# Altium schematic symbol library Schlib_STMicroelectronics.SchLib: 43 symbols
Pins are listed as number, name and electrical type; pins without a type are passive.

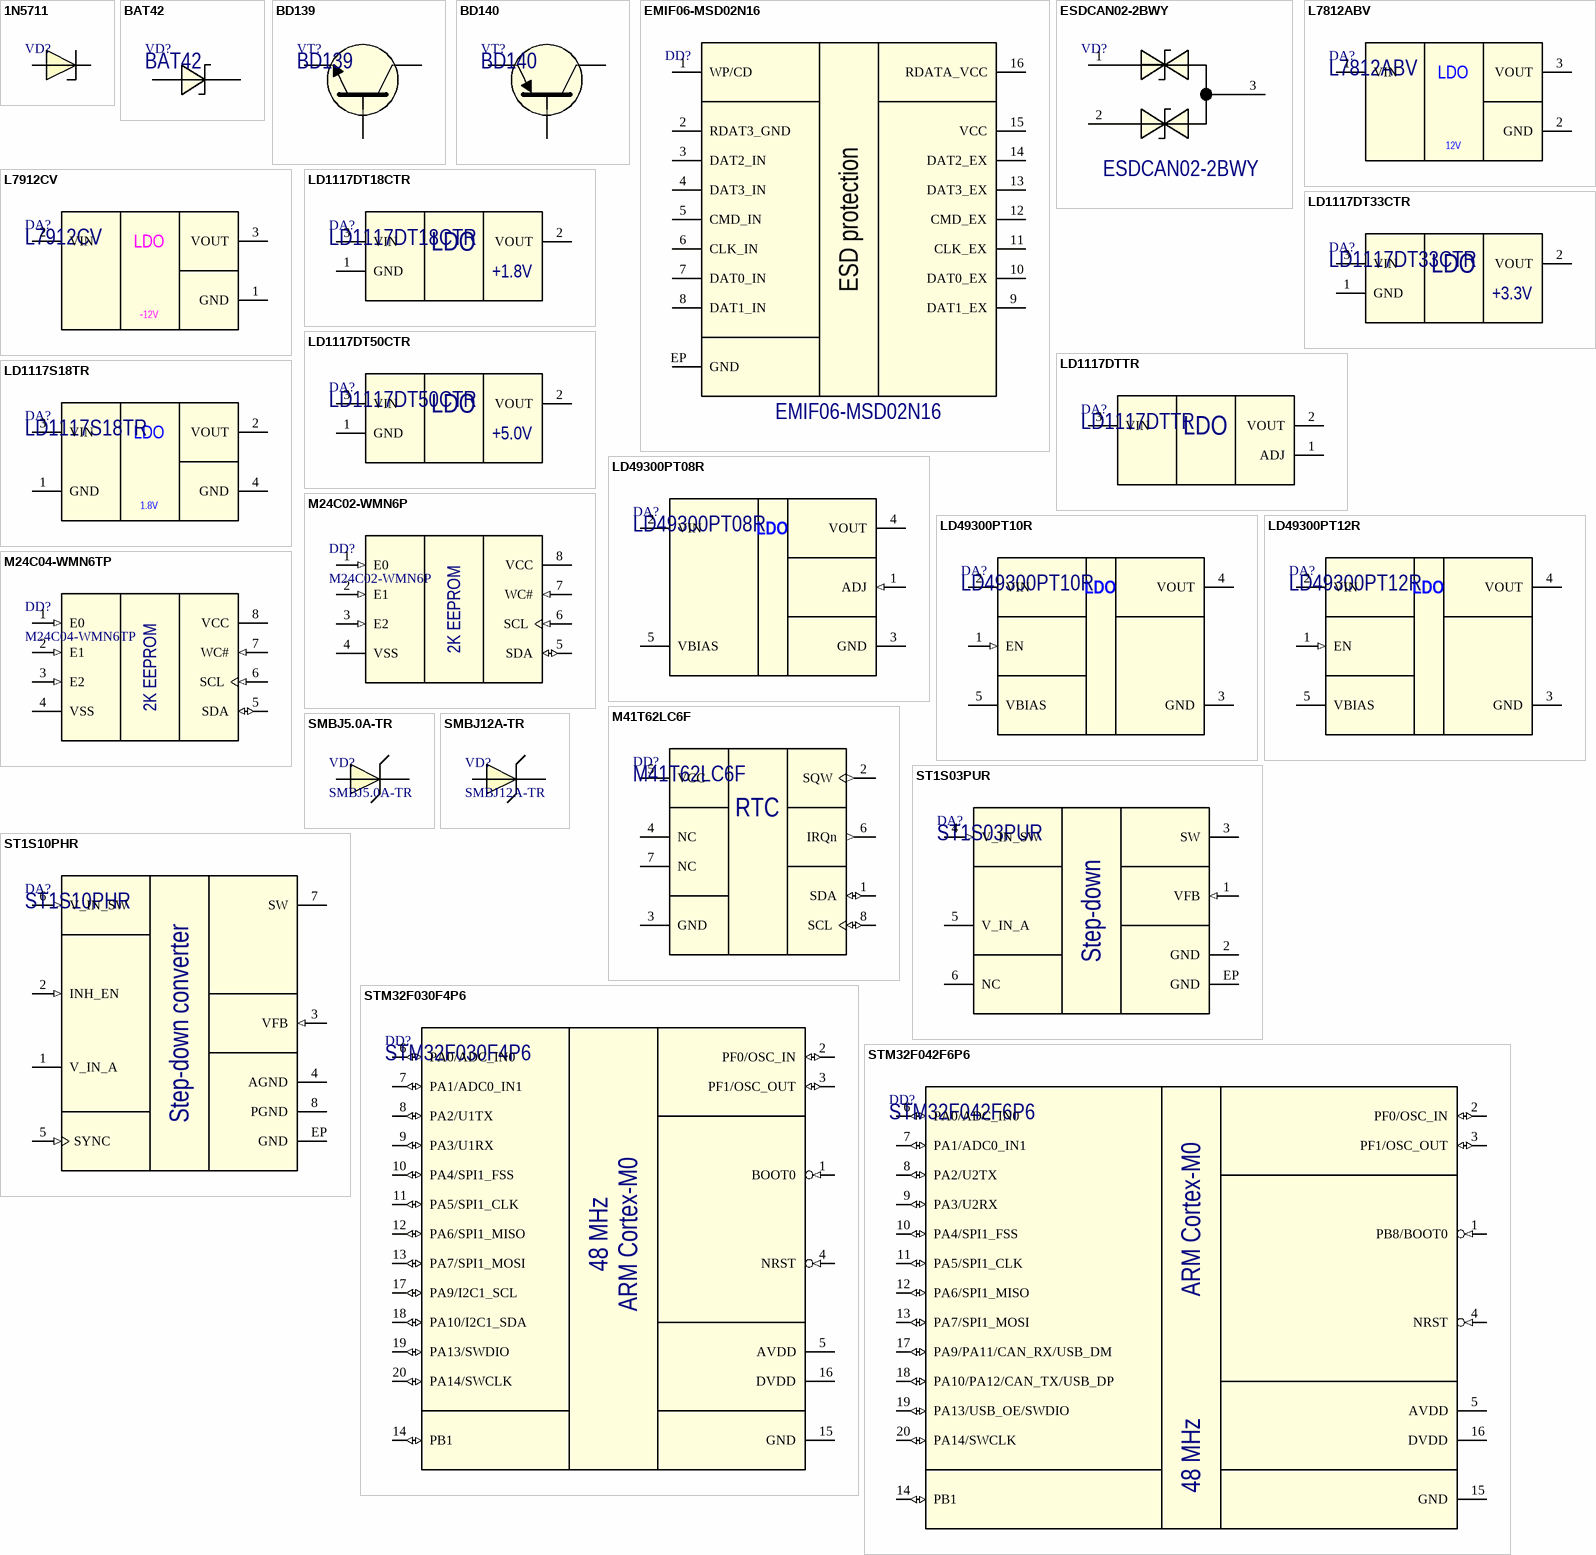
[diagram p0: symbols 1N5711 to STM32F042F6P6]

## 1N5711
designator VD?  (value not drawn)
Schottky diode 10mA, 70V; Manufacturer: STMicroelectronics; Package: DO-35; Part Number: 1N5711
footprint DO-35 GLASS BLUE
footprint DO-35 GLASS BLUE (VERTICAL)
pins: 1 C, 2 A

## BAT42
designator VD?
Small signal schottky diode 30V @ 200mA; Manufacturer: STMicroelectronics; Package: DO-35; Part Number: BAT42
footprint DO-35 GLASS BLUE
footprint DO-35 GLASS BLUE (VERTICAL)
pins: 1 CATHODE, 2 ANODE

## BD139
designator VT?
General Purpose n-p-n Transistors; Manufacturer: STMicroelectronics; Package: TO-126; Part Number: BD139
footprint TO-126 (HORIZONTAL, HOLE MOUNTING)
footprint TO-126 (HORIZONTAL)
footprint TO-126 (VERTICAL)
pins: 1 B, 2 C, 3 E

## BD140
designator VT?
General Purpose p-n-p Transistors; Manufacturer: STMicroelectronics; Package: TO-126; Part Number: BD140
footprint TO-126 (HORIZONTAL, HOLE MOUNTING)
footprint TO-126 (HORIZONTAL)
footprint TO-126 (VERTICAL)
pins: 1 B, 2 C, 3 E

## EMIF06-MSD02N16
designator DD?
EMI filter and ESD protection; Manufacturer: STMicroelectronics; Package: QFN-16L (3.5x1.2mm); Part Number: EMIF06-MSD02N16
footprint QFN-16L (3.5x1.2mm) (QFN, 16-Leads, Body 1,20x3,50mm, Pitch 0,40mm, Thermal Pad 0,33x2,80mm, IPC High Density)
pins: 1 WP/CD, 2 RDAT3_GND, 3 DAT2_IN, 4 DAT3_IN, 5 CMD_IN, 6 CLK_IN, 7 DAT0_IN, 8 DAT1_IN, 9 DAT1_EX, 10 DAT0_EX, 11 CLK_EX, 12 CMD_EX, 13 DAT3_EX, 14 DAT2_EX, 15 VCC, 16 RDATA_VCC, EP GND
text: ESD protection

## ESDCAN02-2BWY
designator VD?
Small signal Schottky diodes; Manufacturer: STMicroelectronics; Package: SC70-3; Part Number: ESDCAN02-2BWY
footprint SC70-3
pins: 1, 2, 3

## L7812ABV
designator DA?
12V, 1,5 A voltage regulator (Fixed version); Manufacturer: STMicroelectronics; Package: TO-220; Part Number: L7812ABV
footprint TO-220AB-3
footprint TO-220AB-3 (HORIZONTAL)
pins: 1 VIN (power), 2 GND, 3 VOUT (power)
text: LDO; 12V

## L7912CV
designator DA?
-12V, 1,5 A voltage regulator (Fixed version); Manufacturer: STMicroelectronics; Package: TO-220; Part Number: L7912CV
footprint TO-220AB-3
footprint TO-220AB-3 (HORIZONTAL)
pins: 1 GND, 2 VIN (power), 3 VOUT (power)
text: LDO; -12V

## LD1117DT18CTR
designator DA?
Low drop positive voltage regulator; Manufacturer: STMicroelectronics; Part Number: LD1117DT18CTR; Package: TO-252-3
footprint TO-252-3 (D-PAK, 3-Pads, Body 6.15x6.66mm (max), IPC Medium Density)
pins: 1 GND (power), 2 VOUT (power), 3 VIN (power)
text: LDO; +1.8V

## LD1117DT33CTR
designator DA?
Low drop positive voltage regulator; Manufacturer: STMicroelectronics; Part Number: LD1117DT33CTR; Package: TO-252-3
footprint TO-252-3 (D-PAK, 3-Pads, Body 6.15x6.66mm (max), IPC Medium Density)
pins: 1 GND (power), 2 VOUT (power), 3 VIN (power)
text: LDO; +3.3V

## LD1117DT50CTR
designator DA?
Low drop positive voltage regulator; Manufacturer: STMicroelectronics; Part Number: LD1117DT50CTR; Package: TO-252-3
footprint TO-252-3 (D-PAK, 3-Pads, Body 6.15x6.66mm (max), IPC Medium Density)
pins: 1 GND (power), 2 VOUT (power), 3 VIN (power)
text: LDO; +5.0V

## LD1117DTTR
designator DA?
Low drop positive voltage regulator; Manufacturer: STMicroelectronics; Part Number: LD1117DTTR; Package: TO-252-3
footprint TO-252-3 (D-PAK, 3-Pads, Body 6.15x6.66mm (max), IPC Medium Density)
pins: 1 ADJ (power), 2 VOUT (power), 3 VIN (power)
text: LDO

## LD1117S18TR
designator DA?
1.8V, 0.8 A voltage regulator; Manufacturer: STMicroelectronics; Package: SOT-223; Part Number: LD1117S18TR
footprint SOT223-4 (SOT223, 4-Leads, Body 6.50x7.00mm (avg), Pitch 2.30mm, IPC Medium Density)
pins: 1 GND, 2 VOUT (power), 3 VIN (power), 4 GND
text: LDO; 1.8V

## LD49300PT08R
designator DA?
3 A very low-dropout voltage regulator (Adjustable version); Manufacturer: STMicroelectronics; Package: TO-252-3; Part Number: LD49300PT08R
footprint TO-252-5 (D-PAK, 5-Pads, Body 6.15x6.66mm (max), IPC Medium Density)
pins: 1 ADJ (in), 2 VIN (power), 3 GND, 4 VOUT (power), 5 VBIAS
text: LDO

## LD49300PT10R
designator DA?
3 A very low-dropout voltage regulator (Fixed version); Manufacturer: STMicroelectronics; Package: TO-252-3; Part Number: LD49300PT10R
footprint TO-252-5 (D-PAK, 5-Pads, Body 6.15x6.66mm (max), IPC Medium Density)
pins: 1 EN (in), 2 VIN (power), 3 GND, 4 VOUT (power), 5 VBIAS
text: LDO

## LD49300PT12R
designator DA?
3 A very low-dropout voltage regulator (Fixed version); Manufacturer: STMicroelectronics; Package: TO-252-3; Part Number: LD49300PT12R
footprint TO-252-5 (D-PAK, 5-Pads, Body 6.15x6.66mm (max), IPC Medium Density)
pins: 1 EN (in), 2 VIN (power), 3 GND, 4 VOUT (power), 5 VBIAS
text: LDO

## M24C02-WMN6P
designator DD?
2K I2C Serial EEPROM; Manufacturer: STMicroelectronics; Package: SOIC-8; Part Number: M24C02-WMN6P
footprint SOIC-8 (SOIC-8 package)
pins: 1 E0 (in), 2 E1 (in), 3 E2 (in), 4 VSS (power), 5 SDA (io), 6 SCL (in), 7 WC# (in), 8 VCC (power)
text: 2K EEPROM

## M24C04-WMN6TP
designator DD?
4K I2C Serial EEPROM; Manufacturer: STMicroelectronics; Package: SOIC-8; Part Number: M24C04-WMN6TP
footprint SOIC-8 (SOIC-8 package)
pins: 1 E0 (in), 2 E1 (in), 3 E2 (in), 4 VSS (power), 5 SDA (io), 6 SCL (in), 7 WC# (in), 8 VCC (power)
text: 2K EEPROM

## M41T62LC6F
designator DD?
Real Time Clock; Manufacturer: STMicroelectronics; Package: LCC8; Part Number: M41T62LC6F
pins: 1 SDA (io), 2 SQW (out), 3 GND (power), 4 NC, 5 VCC (power), 6 IRQn (out), 7 NC, 8 SCL (io)
text: RTC

## SMBJ5.0A-TR
designator VD?
5V Transient Voltage Suppressors; Manufacturer: STMicroelectronics; Part Number: SMBJ5.0A-TR; Package: DO214AA (SMB)
footprint SMB (DO-214AA)
pins: 1 C, 2 A

## SMBJ12A-TR
designator VD?
12V Transient Voltage Suppressors; Manufacturer: STMicroelectronics; Part Number: SMBJ12A-TR; Package: DO214AA (SMB)
footprint SMB (DO-214AA)
pins: 1 C, 2 A

## ST1S03PUR
designator DA?
1.5 A, 1.5 MHz, monolithic synchronous step-down regulator IC; Manufacturer: STMicroelectronics; Part Number: ST1S03PUR; Package: DFN6D
footprint DFN6D (QFN 3mm x 3mm)
pins: 1 VFB (in), 2 GND (power), 3 SW (power), 4 V_IN_SW (in), 5 V_IN_A (power), 6 NC (hiz), EP GND (power)
text: Step-down

## ST1S10PHR
designator DA?
3 A, 900 kHz, monolithic synchronous step-down regulator IC; Manufacturer: STMicroelectronics; Part Number: ST1S10PHR; Package: SO-8EP
footprint SOIC-8EP (SOIC-8 package with exponsed pad)
pins: 1 V_IN_A (power), 2 INH_EN (in), 3 VFB (in), 4 AGND (power), 5 SYNC (in), 6 V_IN_SW (in), 7 SW (power), 8 PGND (power), EP GND (power)
text: Step-down converter

## STM32F030F4P6
designator DD?
ARM Cortex-M0 MCU 48MHz with 16KB flash; Manufacturer: STMicroelectronics; Package: TSSOP-20; Part Number: STM32F030F4P6
footprint TSSOP-20 (TSOP, 20-Leads, Body 6.50x4.40mm, Pitch 0.65mm, IPC Medium Density)
pins: 1 BOOT0 (in), 2 PF0/OSC_IN (io), 3 PF1/OSC_OUT (io), 4 NRST (in), 5 AVDD (power), 6 PA0/ADC_IN0 (io), 7 PA1/ADC0_IN1 (io), 8 PA2/U1TX (io), 9 PA3/U1RX (io), 10 PA4/SPI1_FSS (io), 11 PA5/SPI1_CLK (io), 12 PA6/SPI1_MISO (io), 13 PA7/SPI1_MOSI (io), 14 PB1 (io), 15 GND (power), 16 DVDD (power), 17 PA9/I2C1_SCL (io), 18 PA10/I2C1_SDA (io), 19 PA13/SWDIO (io), 20 PA14/SWCLK (io)
text: 48 MHz; ARM Cortex-M0

## STM32F042F6P6
designator DD?
ARM Cortex-M0 MCU 48MHz with 32KB flash; Manufacturer: STMicroelectronics; Package: TSSOP-20; Part Number: STM32F042F6P6
footprint TSSOP-20 (TSOP, 20-Leads, Body 6.50x4.40mm, Pitch 0.65mm, IPC Medium Density)
pins: 1 PB8/BOOT0 (in), 2 PF0/OSC_IN (io), 3 PF1/OSC_OUT (io), 4 NRST (in), 5 AVDD (power), 6 PA0/ADC_IN0 (io), 7 PA1/ADC0_IN1 (io), 8 PA2/U2TX (io), 9 PA3/U2RX (io), 10 PA4/SPI1_FSS (io), 11 PA5/SPI1_CLK (io), 12 PA6/SPI1_MISO (io), 13 PA7/SPI1_MOSI (io), 14 PB1 (io), 15 GND (power), 16 DVDD (power), 17 PA9/PA11/CAN_RX/USB_DM (io), 18 PA10/PA12/CAN_TX/USB_DP (io), 19 PA13/USB_OE/SWDIO (io), 20 PA14/SWCLK (io)
text: ARM Cortex-M0; 48 MHz

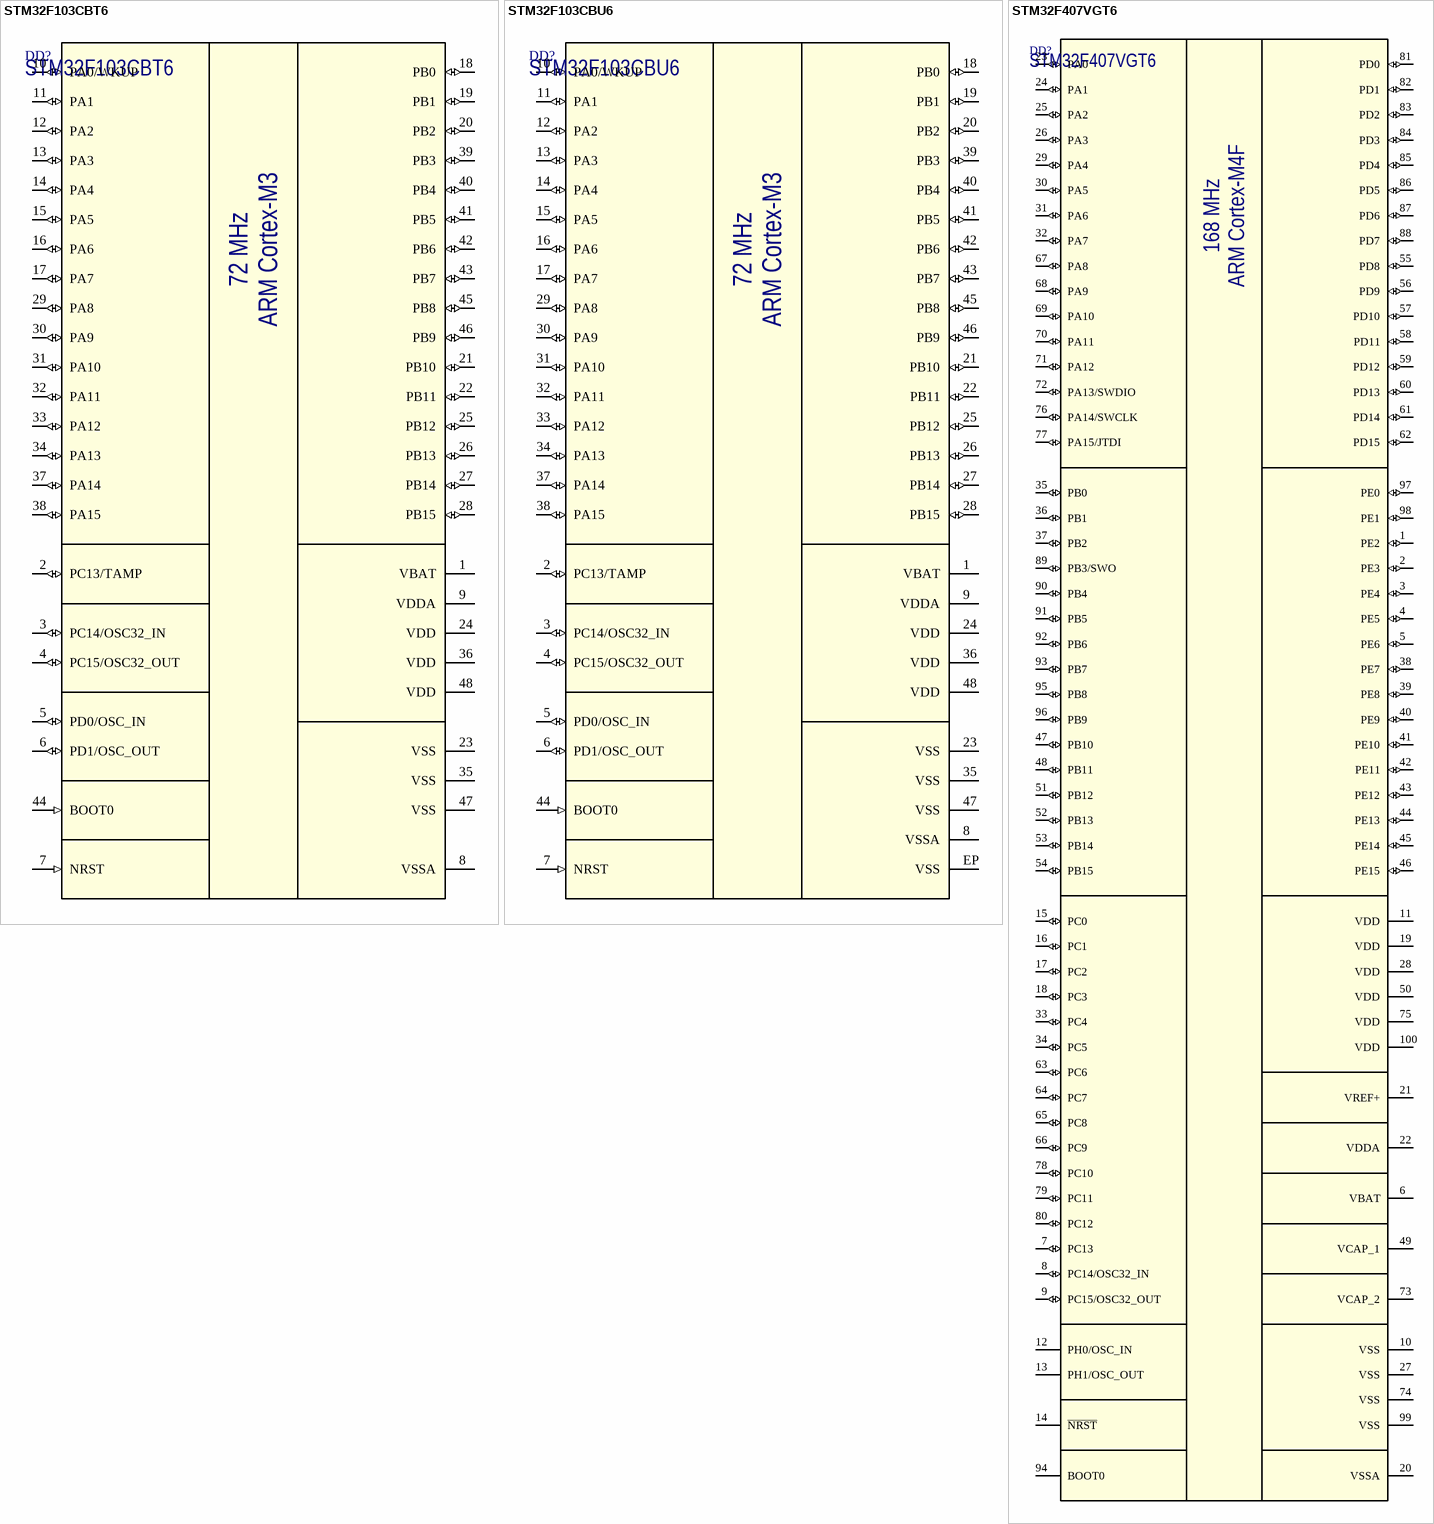
[diagram p1: symbols STM32F103CBT6 to STM32F407VGT6]

## STM32F103CBT6
designator DD?
ARM Cortex-M3 MCU 72MHz with 128KB flash; Manufacturer: STMicroelectronics; Package: LQFP-48; Part Number: STM32F103CBT6
footprint LQFP-48 (TSQFP, 48-Leads, Body 7,00x7,00mm, Pitch 0,50mm, IPC Medium Density)
pins: 1 VBAT (power), 2 PC13/TAMP (io), 3 PC14/OSC32_IN (io), 4 PC15/OSC32_OUT (io), 5 PD0/OSC_IN (io), 6 PD1/OSC_OUT (io), 7 NRST (in), 8 VSSA (power), 9 VDDA (power), 10 PA0/WKUP (io), 11 PA1 (io), 12 PA2 (io), 13 PA3 (io), 14 PA4 (io), 15 PA5 (io), 16 PA6 (io), 17 PA7 (io), 18 PB0 (io), 19 PB1 (io), 20 PB2 (io), 21 PB10 (io), 22 PB11 (io), 23 VSS (power), 24 VDD (power), 25 PB12 (io), 26 PB13 (io), 27 PB14 (io), 28 PB15 (io), 29 PA8 (io), 30 PA9 (io), 31 PA10 (io), 32 PA11 (io), 33 PA12 (io), 34 PA13 (io), 35 VSS (power), 36 VDD (power), 37 PA14 (io), 38 PA15 (io), 39 PB3 (io), 40 PB4 (io), 41 PB5 (io), 42 PB6 (io), 43 PB7 (io), 44 BOOT0 (in), 45 PB8 (io), 46 PB9 (io), 47 VSS (power), 48 VDD (power)
text: 72 MHz; ARM Cortex-M3

## STM32F103CBU6
designator DD?
ARM Cortex-M3 MCU 72MHz with 128KB flash; Manufacturer: STMicroelectronics; Package: UFQFPN-48; Part Number: STM32F103CBU6
footprint QFN48 (QFN, 48-Leads, Body 6.95x6.95mm, Pitch 0.50mm, Thermal Pad 5.60x5.60mm, IPC Medium Density)
pins: 1 VBAT (power), 2 PC13/TAMP (io), 3 PC14/OSC32_IN (io), 4 PC15/OSC32_OUT (io), 5 PD0/OSC_IN (io), 6 PD1/OSC_OUT (io), 7 NRST (in), 8 VSSA (power), 9 VDDA (power), 10 PA0/WKUP (io), 11 PA1 (io), 12 PA2 (io), 13 PA3 (io), 14 PA4 (io), 15 PA5 (io), 16 PA6 (io), 17 PA7 (io), 18 PB0 (io), 19 PB1 (io), 20 PB2 (io), 21 PB10 (io), 22 PB11 (io), 23 VSS (power), 24 VDD (power), 25 PB12 (io), 26 PB13 (io), 27 PB14 (io), 28 PB15 (io), 29 PA8 (io), 30 PA9 (io), 31 PA10 (io), 32 PA11 (io), 33 PA12 (io), 34 PA13 (io), 35 VSS (power), 36 VDD (power), 37 PA14 (io), 38 PA15 (io), 39 PB3 (io), 40 PB4 (io), 41 PB5 (io), 42 PB6 (io), 43 PB7 (io), 44 BOOT0 (in), 45 PB8 (io), 46 PB9 (io), 47 VSS (power), 48 VDD (power), EP VSS (power)
text: 72 MHz; ARM Cortex-M3

## STM32F407VGT6
designator DD?
ARM Cortex-M4F MCU 168MHz with 1MB flash; Manufacturer: STMicroelectronics; Package: LQFP-100; Part Number: STM32F407VGT6
footprint LQFP-100 (TSQFP, 100-Leads, Body 14,00x14,00mm, Pitch 0,50mm, IPC Medium Density)
pins: 1 PE2 (io), 2 PE3 (io), 3 PE4 (io), 4 PE5 (io), 5 PE6 (io), 6 VBAT, 7 PC13 (io), 8 PC14/OSC32_IN (io), 9 PC15/OSC32_OUT (io), 10 VSS, 11 VDD, 12 PH0/OSC_IN, 13 PH1/OSC_OUT, 14 ~{NRST}, 15 PC0 (io), 16 PC1 (io), 17 PC2 (io), 18 PC3 (io), 19 VDD, 20 VSSA, 21 VREF+, 22 VDDA, 23 PA0 (io), 24 PA1 (io), 25 PA2 (io), 26 PA3 (io), 27 VSS, 28 VDD, 29 PA4 (io), 30 PA5 (io), 31 PA6 (io), 32 PA7 (io), 33 PC4 (io), 34 PC5 (io), 35 PB0 (io), 36 PB1 (io), 37 PB2 (io), 38 PE7 (io), 39 PE8 (io), 40 PE9 (io), 41 PE10 (io), 42 PE11 (io), 43 PE12 (io), 44 PE13 (io), 45 PE14 (io), 46 PE15 (io), 47 PB10 (io), 48 PB11 (io), 49 VCAP_1, 50 VDD, 51 PB12 (io), 52 PB13 (io), 53 PB14 (io), 54 PB15 (io), 55 PD8 (io), 56 PD9 (io), 57 PD10 (io), 58 PD11 (io), 59 PD12 (io), 60 PD13 (io), 61 PD14 (io), 62 PD15 (io), 63 PC6 (io), 64 PC7 (io), 65 PC8 (io), 66 PC9 (io), 67 PA8 (io), 68 PA9 (io), 69 PA10 (io), 70 PA11 (io), 71 PA12 (io), 72 PA13/SWDIO (io), 73 VCAP_2, 74 VSS, 75 VDD, 76 PA14/SWCLK (io), 77 PA15/JTDI (io), 78 PC10 (io), 79 PC11 (io), 80 PC12 (io), 81 PD0 (io), 82 PD1 (io), 83 PD2 (io), 84 PD3 (io), 85 PD4 (io), 86 PD5 (io), 87 PD6 (io), 88 PD7 (io), 89 PB3/SWO (io), 90 PB4 (io), 91 PB5 (io), 92 PB6 (io), 93 PB7 (io), 94 BOOT0, 95 PB8 (io), 96 PB9 (io), 97 PE0 (io), 98 PE1 (io), 99 VSS, 100 VDD
text: 168 MHz; ARM Cortex-M4F

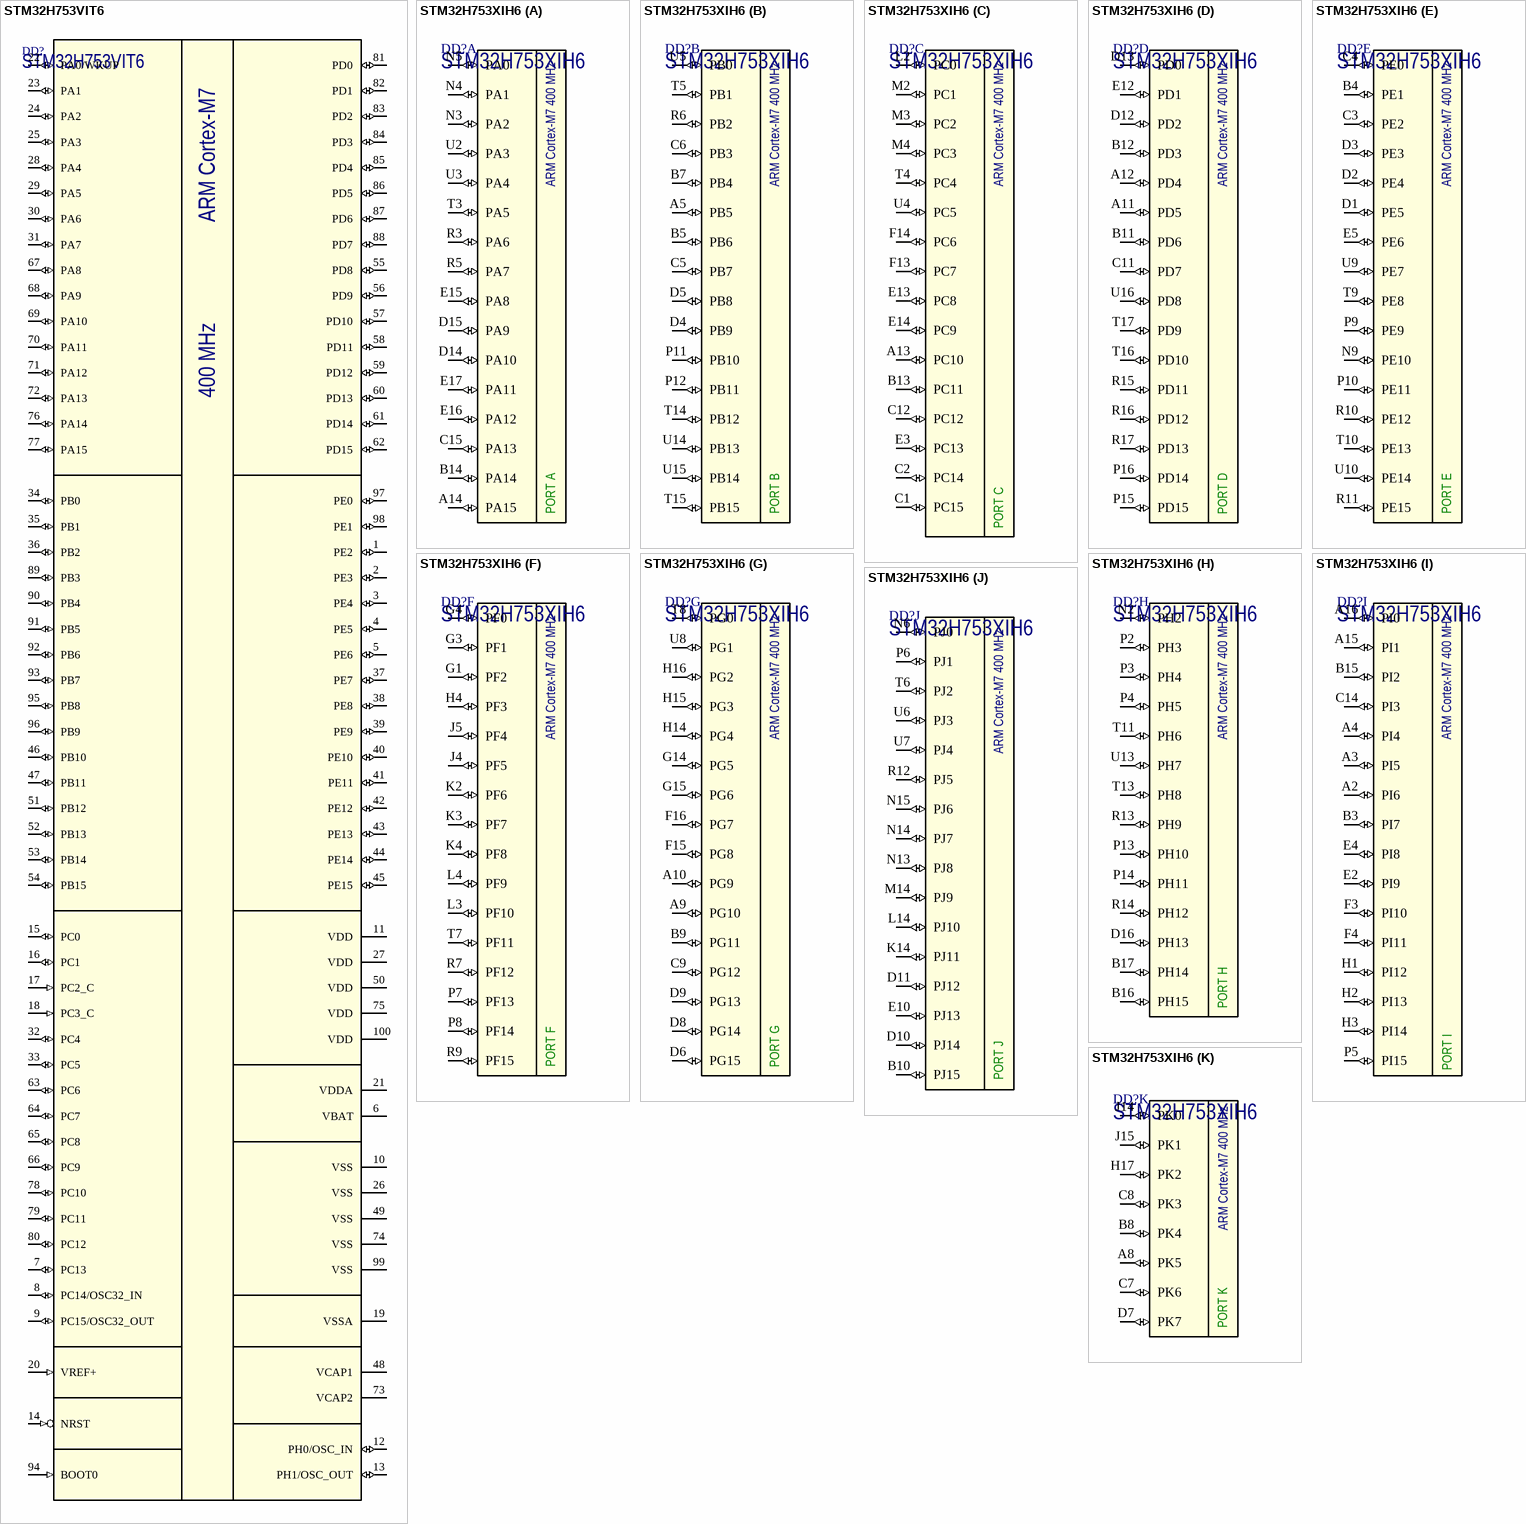
[diagram p2: symbols STM32H753VIT6 to STM32H753XIH6]

## STM32H753VIT6
designator DD?
ARM Cortex-M7 MCU 400MHz with 2MB flash; Manufacturer: STMicroelectronics; Package: LQFP-100; Part Number: STM32H753VIT6
footprint LQFP-100 (TSQFP, 100-Leads, Body 14,00x14,00mm, Pitch 0,50mm, IPC Medium Density)
pins: 1 PE2 (io), 2 PE3 (io), 3 PE4 (io), 4 PE5 (io), 5 PE6 (io), 6 VBAT (power), 7 PC13 (io), 8 PC14/OSC32_IN (io), 9 PC15/OSC32_OUT (io), 10 VSS (power), 11 VDD (power), 12 PH0/OSC_IN (io), 13 PH1/OSC_OUT (io), 14 NRST (in), 15 PC0 (io), 16 PC1 (io), 17 PC2_C (in), 18 PC3_C (in), 19 VSSA (power), 20 VREF+ (in), 21 VDDA (power), 22 PA0/WKUP (io), 23 PA1 (io), 24 PA2 (io), 25 PA3 (io), 26 VSS (power), 27 VDD (power), 28 PA4 (io), 29 PA5 (io), 30 PA6 (io), 31 PA7 (io), 32 PC4 (io), 33 PC5 (io), 34 PB0 (io), 35 PB1 (io), 36 PB2 (io), 37 PE7 (io), 38 PE8 (io), 39 PE9 (io), 40 PE10 (io), 41 PE11 (io), 42 PE12 (io), 43 PE13 (io), 44 PE14 (io), 45 PE15 (io), 46 PB10 (io), 47 PB11 (io), 48 VCAP1, 49 VSS (power), 50 VDD (power), 51 PB12 (io), 52 PB13 (io), 53 PB14 (io), 54 PB15 (io), 55 PD8 (io), 56 PD9 (io), 57 PD10 (io), 58 PD11 (io), 59 PD12 (io), 60 PD13 (io), 61 PD14 (io), 62 PD15 (io), 63 PC6 (io), 64 PC7 (io), 65 PC8 (io), 66 PC9 (io), 67 PA8 (io), 68 PA9 (io), 69 PA10 (io), 70 PA11 (io), 71 PA12 (io), 72 PA13 (io), 73 VCAP2, 74 VSS (power), 75 VDD (power), 76 PA14 (io), 77 PA15 (io), 78 PC10 (io), 79 PC11 (io), 80 PC12 (io), 81 PD0 (io), 82 PD1 (io), 83 PD2 (io), 84 PD3 (io), 85 PD4 (io), 86 PD5 (io), 87 PD6 (io), 88 PD7 (io), 89 PB3 (io), 90 PB4 (io), 91 PB5 (io), 92 PB6 (io), 93 PB7 (io), 94 BOOT0 (in), 95 PB8 (io), 96 PB9 (io), 97 PE0 (io), 98 PE1 (io), 99 VSS (power), 100 VDD (power)
text: ARM Cortex-M7; 400 MHz

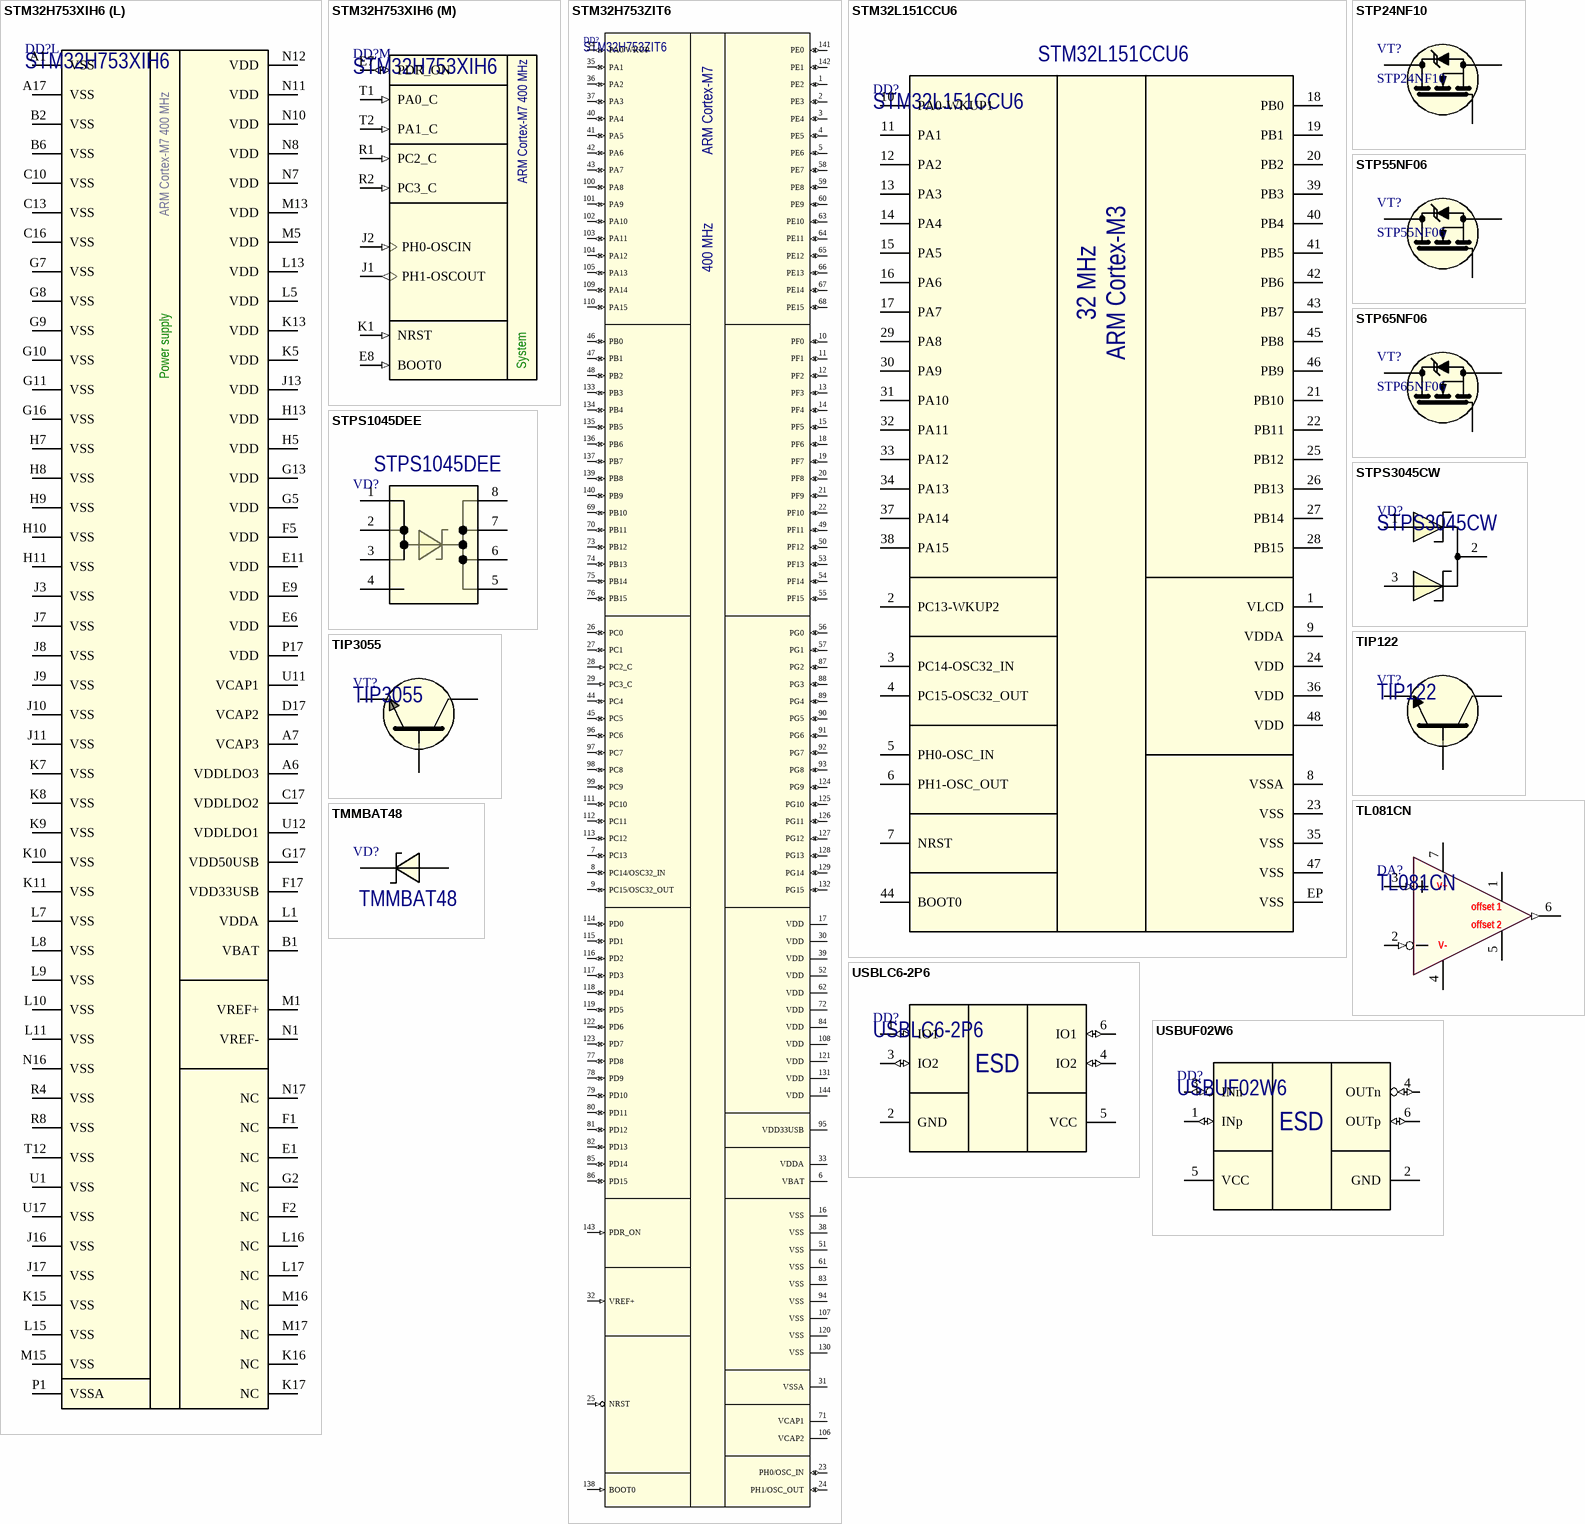
[diagram p3: symbols STM32H753XIH6 to USBUF02W6]

## STM32H753XIH6
designator DD?
ARM Cortex-M7 MCU 400MHz with 2MB flash, 1MB RAM; Manufacturer: STMicroelectronics; Package: TFBGA240+25; Part Number: STM32H753XIH6
footprint TFBGA240+25 (BGA, 265-Leads, Body 14,00x14,00mmx1,10mm, Pitch 0,80mm)
part A pins: A14 PA15 (io), B14 PA14 (io), C15 PA13 (io), D14 PA10 (io), D15 PA9 (io), E15 PA8 (io), E16 PA12 (io), E17 PA11 (io), N3 PA2 (io), N4 PA1 (io), N5 PA0 (io), R3 PA6 (io), R5 PA7 (io), T3 PA5 (io), U2 PA3 (io), U3 PA4 (io)
part B pins: A5 PB5 (io), B5 PB6 (io), B7 PB4 (io), C5 PB7 (io), C6 PB3 (io), D4 PB9 (io), D5 PB8 (io), P11 PB10 (io), P12 PB11 (io), R6 PB2 (io), T5 PB1 (io), T14 PB12 (io), T15 PB15 (io), U5 PB0 (io), U14 PB13 (io), U15 PB14 (io)
part C pins: A13 PC10 (io), B13 PC11 (io), C1 PC15 (io), C2 PC14 (io), C12 PC12 (io), E3 PC13 (io), E13 PC8 (io), E14 PC9 (io), F13 PC7 (io), F14 PC6 (io), L2 PC0 (io), M2 PC1 (io), M3 PC2 (io), M4 PC3 (io), T4 PC4 (io), U4 PC5 (io)
part D pins: A11 PD5 (io), A12 PD4 (io), B11 PD6 (io), B12 PD3 (io), C11 PD7 (io), D12 PD2 (io), D13 PD0 (io), E12 PD1 (io), P15 PD15 (io), P16 PD14 (io), R15 PD11 (io), R16 PD12 (io), R17 PD13 (io), T16 PD10 (io), T17 PD9 (io), U16 PD8 (io)
part E pins: B4 PE1 (io), C3 PE2 (io), C4 PE0 (io), D1 PE5 (io), D2 PE4 (io), D3 PE3 (io), E5 PE6 (io), N9 PE10 (io), P9 PE9 (io), P10 PE11 (io), R10 PE12 (io), R11 PE15 (io), T9 PE8 (io), T10 PE13 (io), U9 PE7 (io), U10 PE14 (io)
part F pins: G1 PF2 (io), G3 PF1 (io), G4 PF0 (io), H4 PF3 (io), J4 PF5 (io), J5 PF4 (io), K2 PF6 (io), K3 PF7 (io), K4 PF8 (io), L3 PF10 (io), L4 PF9 (io), P7 PF13 (io), P8 PF14 (io), R7 PF12 (io), R9 PF15 (io), T7 PF11 (io)
part G pins: A9 PG10 (io), A10 PG9 (io), B9 PG11 (io), C9 PG12 (io), D6 PG15 (io), D8 PG14 (io), D9 PG13 (io), F15 PG8 (io), F16 PG7 (io), G14 PG5 (io), G15 PG6 (io), H14 PG4 (io), H15 PG3 (io), H16 PG2 (io), T8 PG0 (io), U8 PG1 (io)
part H pins: B16 PH15 (io), B17 PH14 (io), D16 PH13 (io), N2 PH2 (io), P2 PH3 (io), P3 PH4 (io), P4 PH5 (io), P13 PH10 (io), P14 PH11 (io), R13 PH9 (io), R14 PH12 (io), T11 PH6 (io), T13 PH8 (io), U13 PH7 (io)
part I pins: A2 PI6 (io), A3 PI5 (io), A4 PI4 (io), A15 PI1 (io), A16 PI0 (io), B3 PI7 (io), B15 PI2 (io), C14 PI3 (io), E2 PI9 (io), E4 PI8 (io), F3 PI10 (io), F4 PI11 (io), H1 PI12 (io), H2 PI13 (io), H3 PI14 (io), P5 PI15 (io)
part J pins: B10 PJ15 (io), D10 PJ14 (io), D11 PJ12 (io), E10 PJ13 (io), K14 PJ11 (io), L14 PJ10 (io), M14 PJ9 (io), N6 PJ0 (io), N13 PJ8 (io), N14 PJ7 (io), N15 PJ6 (io), P6 PJ1 (io), R12 PJ5 (io), T6 PJ2 (io), U6 PJ3 (io), U7 PJ4 (io)
part K pins: A8 PK5 (io), B8 PK4 (io), C7 PK6 (io), C8 PK3 (io), D7 PK7 (io), H17 PK2 (io), J14 PK0 (io), J15 PK1 (io)
part L pins: A1 VSS (power), A6 VDDLDO3 (power), A7 VCAP3 (power), A17 VSS (power), B1 VBAT (power), B2 VSS (power), B6 VSS (power), C10 VSS (power), C13 VSS (power), C16 VSS (power), C17 VDDLDO2 (power), D17 VCAP2 (power), E1 NC, E6 VDD (power), E9 VDD (power), E11 VDD (power), F1 NC, F2 NC, F5 VDD (power), F17 VDD33USB (power), G2 NC, G5 VDD (power), G7 VSS (power), G8 VSS (power), G9 VSS (power), G10 VSS (power), G11 VSS (power), G13 VDD (power), G16 VSS (power), G17 VDD50USB (power), H5 VDD (power), H7 VSS (power), H8 VSS (power), H9 VSS (power), H10 VSS (power), H11 VSS (power), H13 VDD (power), J3 VSS (power), J7 VSS (power), J8 VSS (power), J9 VSS (power), J10 VSS (power), J11 VSS (power), J13 VDD (power), J16 VSS (power), J17 VSS (power), K5 VDD (power), K7 VSS (power), K8 VSS (power), K9 VSS (power), K10 VSS (power), K11 VSS (power), K13 VDD (power), K15 VSS (power), K16 NC, K17 NC, L1 VDDA (power), L5 VDD (power), L7 VSS (power), L8 VSS (power), L9 VSS (power), L10 VSS (power), L11 VSS (power), L13 VDD (power), L15 VSS (power), L16 NC, L17 NC, M1 VREF+ (power), M5 VDD (power), M13 VDD (power), M15 VSS (power), M16 NC, M17 NC, N1 VREF- (power), N7 VDD (power), N8 VDD (power), N10 VDD (power), N11 VDD (power), N12 VDD (power), N16 VSS (power), N17 NC, P1 VSSA (power), P17 VDD (power), R4 VSS (power), R8 VSS (power), T12 VSS (power), U1 VSS (power), U11 VCAP1 (power), U12 VDDLDO1 (power), U17 VSS (power)
part M pins: E7 PDR_ON (io), E8 BOOT0 (in), J1 PH1-OSCOUT (out), J2 PH0-OSCIN (in), K1 NRST (in), R1 PC2_C (in), R2 PC3_C (in), T1 PA0_C (in), T2 PA1_C (in)
part A text: ARM Cortex-M7 400 MHz; PORT A
part B text: ARM Cortex-M7 400 MHz; PORT B
part C text: ARM Cortex-M7 400 MHz; PORT C
part D text: ARM Cortex-M7 400 MHz; PORT D
part E text: ARM Cortex-M7 400 MHz; PORT E
part F text: ARM Cortex-M7 400 MHz; PORT F
part G text: ARM Cortex-M7 400 MHz; PORT G
part H text: ARM Cortex-M7 400 MHz; PORT H
part I text: ARM Cortex-M7 400 MHz; PORT I
part J text: ARM Cortex-M7 400 MHz; PORT J
part K text: ARM Cortex-M7 400 MHz; PORT K
part L text: ARM Cortex-M7 400 MHz; Power supply
part M text: ARM Cortex-M7 400 MHz; System

## STM32H753ZIT6
designator DD?
ARM Cortex-M7 MCU 400MHz with 2MB flash; Manufacturer: STMicroelectronics; Package: LQFP-144; Part Number: STM32H753ZIT6
footprint LQFP-144 (TSQFP, 144-Leads, Body 20,00x20,00mm, Pitch 0,50mm, IPC Medium Density)
pins: 1 PE2 (io), 2 PE3 (io), 3 PE4 (io), 4 PE5 (io), 5 PE6 (io), 6 VBAT (power), 7 PC13 (io), 8 PC14/OSC32_IN (io), 9 PC15/OSC32_OUT (io), 10 PF0 (io), 11 PF1 (io), 12 PF2 (io), 13 PF3 (io), 14 PF4 (io), 15 PF5 (io), 16 VSS (power), 17 VDD (power), 18 PF6 (io), 19 PF7 (io), 20 PF8 (io), 21 PF9 (io), 22 PF10 (io), 23 PH0/OSC_IN (io), 24 PH1/OSC_OUT (io), 25 NRST (in), 26 PC0 (io), 27 PC1 (io), 28 PC2_C (in), 29 PC3_C (in), 30 VDD (power), 31 VSSA (power), 32 VREF+ (in), 33 VDDA (power), 34 PA0/WKUP (io), 35 PA1 (io), 36 PA2 (io), 37 PA3 (io), 38 VSS (power), 39 VDD (power), 40 PA4 (io), 41 PA5 (io), 42 PA6 (io), 43 PA7 (io), 44 PC4 (io), 45 PC5 (io), 46 PB0 (io), 47 PB1 (io), 48 PB2 (io), 49 PF11 (io), 50 PF12 (io), 51 VSS (power), 52 VDD (power), 53 PF13 (io), 54 PF14 (io), 55 PF15 (io), 56 PG0 (io), 57 PG1 (io), 58 PE7 (io), 59 PE8 (io), 60 PE9 (io), 61 VSS (power), 62 VDD (power), 63 PE10 (io), 64 PE11 (io), 65 PE12 (io), 66 PE13 (io), 67 PE14 (io), 68 PE15 (io), 69 PB10 (io), 70 PB11 (io), 71 VCAP1, 72 VDD (power), 73 PB12 (io), 74 PB13 (io), 75 PB14 (io), 76 PB15 (io), 77 PD8 (io), 78 PD9 (io), 79 PD10 (io), 80 PD11 (io), 81 PD12 (io), 82 PD13 (io), 83 VSS (power), 84 VDD (power), 85 PD14 (io), 86 PD15 (io), 87 PG2 (io), 88 PG3 (io), 89 PG4 (io), 90 PG5 (io), 91 PG6 (io), 92 PG7 (io), 93 PG8 (io), 94 VSS (power), 95 VDD33USB (power), 96 PC6 (io), 97 PC7 (io), 98 PC8 (io), 99 PC9 (io), 100 PA8 (io), 101 PA9 (io), 102 PA10 (io), 103 PA11 (io), 104 PA12 (io), 105 PA13 (io), 106 VCAP2, 107 VSS (power), 108 VDD (power), 109 PA14 (io), 110 PA15 (io), 111 PC10 (io), 112 PC11 (io), 113 PC12 (io), 114 PD0 (io), 115 PD1 (io), 116 PD2 (io), 117 PD3 (io), 118 PD4 (io), 119 PD5 (io), 120 VSS (power), 121 VDD (power), 122 PD6 (io), 123 PD7 (io), 124 PG9 (io), 125 PG10 (io), 126 PG11 (io), 127 PG12 (io), 128 PG13 (io), 129 PG14 (io), 130 VSS (power), 131 VDD (power), 132 PG15 (io), 133 PB3 (io), 134 PB4 (io), 135 PB5 (io), 136 PB6 (io), 137 PB7 (io), 138 BOOT0 (in), 139 PB8 (io), 140 PB9 (io), 141 PE0 (io), 142 PE1 (io), 143 PDR_ON (in), 144 VDD (power)
text: ARM Cortex-M7; 400 MHz

## STM32L151CCU6
designator DD?
ARM Cortex-M0 MCU 48MHz with 16KB flash; Manufacturer: STMicroelectronics; Package: UFQFPN48; Part Number: STM32L151CCU6
footprint QFN48 (QFN, 48-Leads, Body 6.95x6.95mm, Pitch 0.50mm, Thermal Pad 5.60x5.60mm, IPC Medium Density)
pins: 1 VLCD, 2 PC13-WKUP2, 3 PC14-OSC32_IN, 4 PC15-OSC32_OUT, 5 PH0-OSC_IN, 6 PH1-OSC_OUT, 7 NRST, 8 VSSA, 9 VDDA, 10 PA0-WKUP1, 11 PA1, 12 PA2, 13 PA3, 14 PA4, 15 PA5, 16 PA6, 17 PA7, 18 PB0, 19 PB1, 20 PB2, 21 PB10, 22 PB11, 23 VSS, 24 VDD, 25 PB12, 26 PB13, 27 PB14, 28 PB15, 29 PA8, 30 PA9, 31 PA10, 32 PA11, 33 PA12, 34 PA13, 35 VSS, 36 VDD, 37 PA14, 38 PA15, 39 PB3, 40 PB4, 41 PB5, 42 PB6, 43 PB7, 44 BOOT0, 45 PB8, 46 PB9, 47 VSS, 48 VDD, EP VSS
text: 32 MHz; ARM Cortex-M3

## STP24NF10
designator VT?
100V @ 26A N-Channel MOSFET Rds=55mOhm; Manufacturer: STMicroelectronics; Part Number: STP24NF10; Package: TO-220
footprint TO-220B-3
footprint TO-220B-3 (HORIZONTAL)
footprint TO-220B-3 (HORIZONTAL, 1.2mm)
pins: 1 G, 2 D, 3 S

## STP55NF06
designator VT?
60V @ 50A N-Channel MOSFET Rds=18mOhm @ 27.5A, 10V; Manufacturer: STMicroelectronics; Part Number: STP55NF06; Package: TO-220
footprint TO-220AB-3
footprint TO-220AB-3 (HORIZONTAL)
pins: 1 G, 2 D, 3 S

## STP65NF06
designator VT?
60V @ 60A N-Channel MOSFET Rds=14mOhm @ 30A, 10V; Manufacturer: STMicroelectronics; Part Number: STP65NF06; Package: TO-220
footprint TO-220AB-3
footprint TO-220AB-3 (HORIZONTAL)
pins: 1 G, 2 D, 3 S

## STPS1045DEE
designator VD?
Schottky diodes 10A, 45V; Manufacturer: STMicroelectronics; Package: PowerFLAT (3.3x3.3mm); Part Number: STPS1045DEE
footprint PowerFLAT-8L (8-Leads, Body 3.30x3.30mm, Pitch 0.65mm)
pins: 1, 2, 3, 4, 5, 6, 7, 8

## STPS3045CW
designator VD?
Power Schottky Rectifier Diode 45V, 2x15A; Manufacturer: STMicroelectronics; Package: TO-247AC; Part Number: STPS3045CW
footprint TO-247 ((HORIZONTAL, BOTTOM)
footprint TO-247 ((HORIZONTAL, TOP)
footprint TO-247 (VERTICAL)
footprint TO-247_with_TO-220 (VERTICAL)
pins: 1 A1, 2 C, 3 A2

## TIP122
designator VT?
Power Darlington Transistor; Manufacturer: STMicroelectronics; Package: TO-220; Part Number: TIP122
footprint TO-220AB-3 (HORIZONTAL)
footprint TO-220AB-3
pins: 1 B, 2 C, 3 E

## TIP3055
designator VT?
General Purpose n-p-n Transistors; Manufacturer: STMicroelectronics; Package: TO-247; Part Number: TIP3055
footprint TO-247 ((HORIZONTAL, TOP)
footprint TO-247_with_TO-220 (VERTICAL)
footprint TO-247 ((HORIZONTAL, BOTTOM)
footprint TO-247 (VERTICAL)
pins: 1 B, 2 C, 3 E

## TL081CN
designator DA?
General Purpose Single JFET Input Operational Amplifier; Manufacturer: STMicroelectronics; Part Number: TL081CN; Package: DIP-8
footprint DIP-8P-M01 (Plastic DIP, 8 pin, lead pitch 2.54mm (0.1"), row spacing 7.62mm (0.3").)
footprint DIP-8P-M01_with_SO8 (Plastic DIP, 8 pin, lead pitch 2.54mm (0.1"), row spacing 7.62mm (0.3").)
pins: 1 OFFSET_NULL_1 (power), 2 IN- (in), 3 IN+ (in), 4 V- (power), 5 OFFSET_NULL_2 (power), 6 OUT (out), 7 V+ (power)
text: offset 1; offset 2

## TMMBAT48
designator VD?
Small signal Schottky diodes; Manufacturer: STMicroelectronics; Package: SOD80C; Part Number: TMMBAT48
footprint SOD-80 (MELF Diode, 2-Leads, Body 3,50x1,50mm, IPC Medium Density)
pins: 1, 2

## USBLC6-2P6
designator DD?
Very low capacitance ESD protection; Manufacturer: STMicroelectronics; Part Number: USBLC6-2P6; Package: SOT-666
footprint SOT-666
pins: 1 IO1 (io), 2 GND (power), 3 IO2 (io), 4 IO2 (io), 5 VCC (power), 6 IO1 (io)
text: ESD

## USBUF02W6
designator DD?
USB ESD Protection; Manufacturer: STMicroelectronics; Part Number: USBUF02W6; Package: SC70-6
footprint SC70-6
pins: 1 INp (io), 2 GND (power), 3 INn (io), 4 OUTn (io), 5 VCC (power), 6 OUTp (io)
text: ESD